# EAGLE library part 74HC2G04 (library group10)
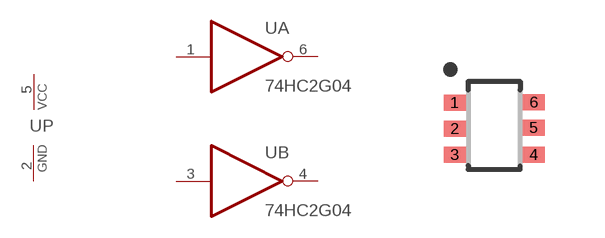
[diagram p1: symbol with the pads of TSSOP6; footprint TSSOP6]

Designator prefix -; gates A=7404 B=7404 P=PWRN

## 74HC2G04  [TSSOP6]
1  A:I  in
2  P:GND  pwr
3  B:I  in
4  B:O  out
5  P:VCC  pwr
6  A:O  out

## Footprint TSSOP6 (pad centres in mm)
smd 0.55 x 0.4: 1 -0.99,0.61; 2 -0.99,-0.04; 3 -0.99,-0.69; 4 0.99,-0.69; 5 0.99,-0.015; 6 0.99,0.62